# Altium schematic symbol library US1K-13-F.Schlib: 1 symbol
Pins are listed as number, name and electrical type; pins without a type are passive.

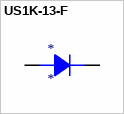
[diagram p0: symbol US1K-13-F]

## US1K-13-F
designator *
pins: 1, 2